# Altium integrated library NSC Temperature Sensor.IntLib: 347 symbols (part 6 of 9)
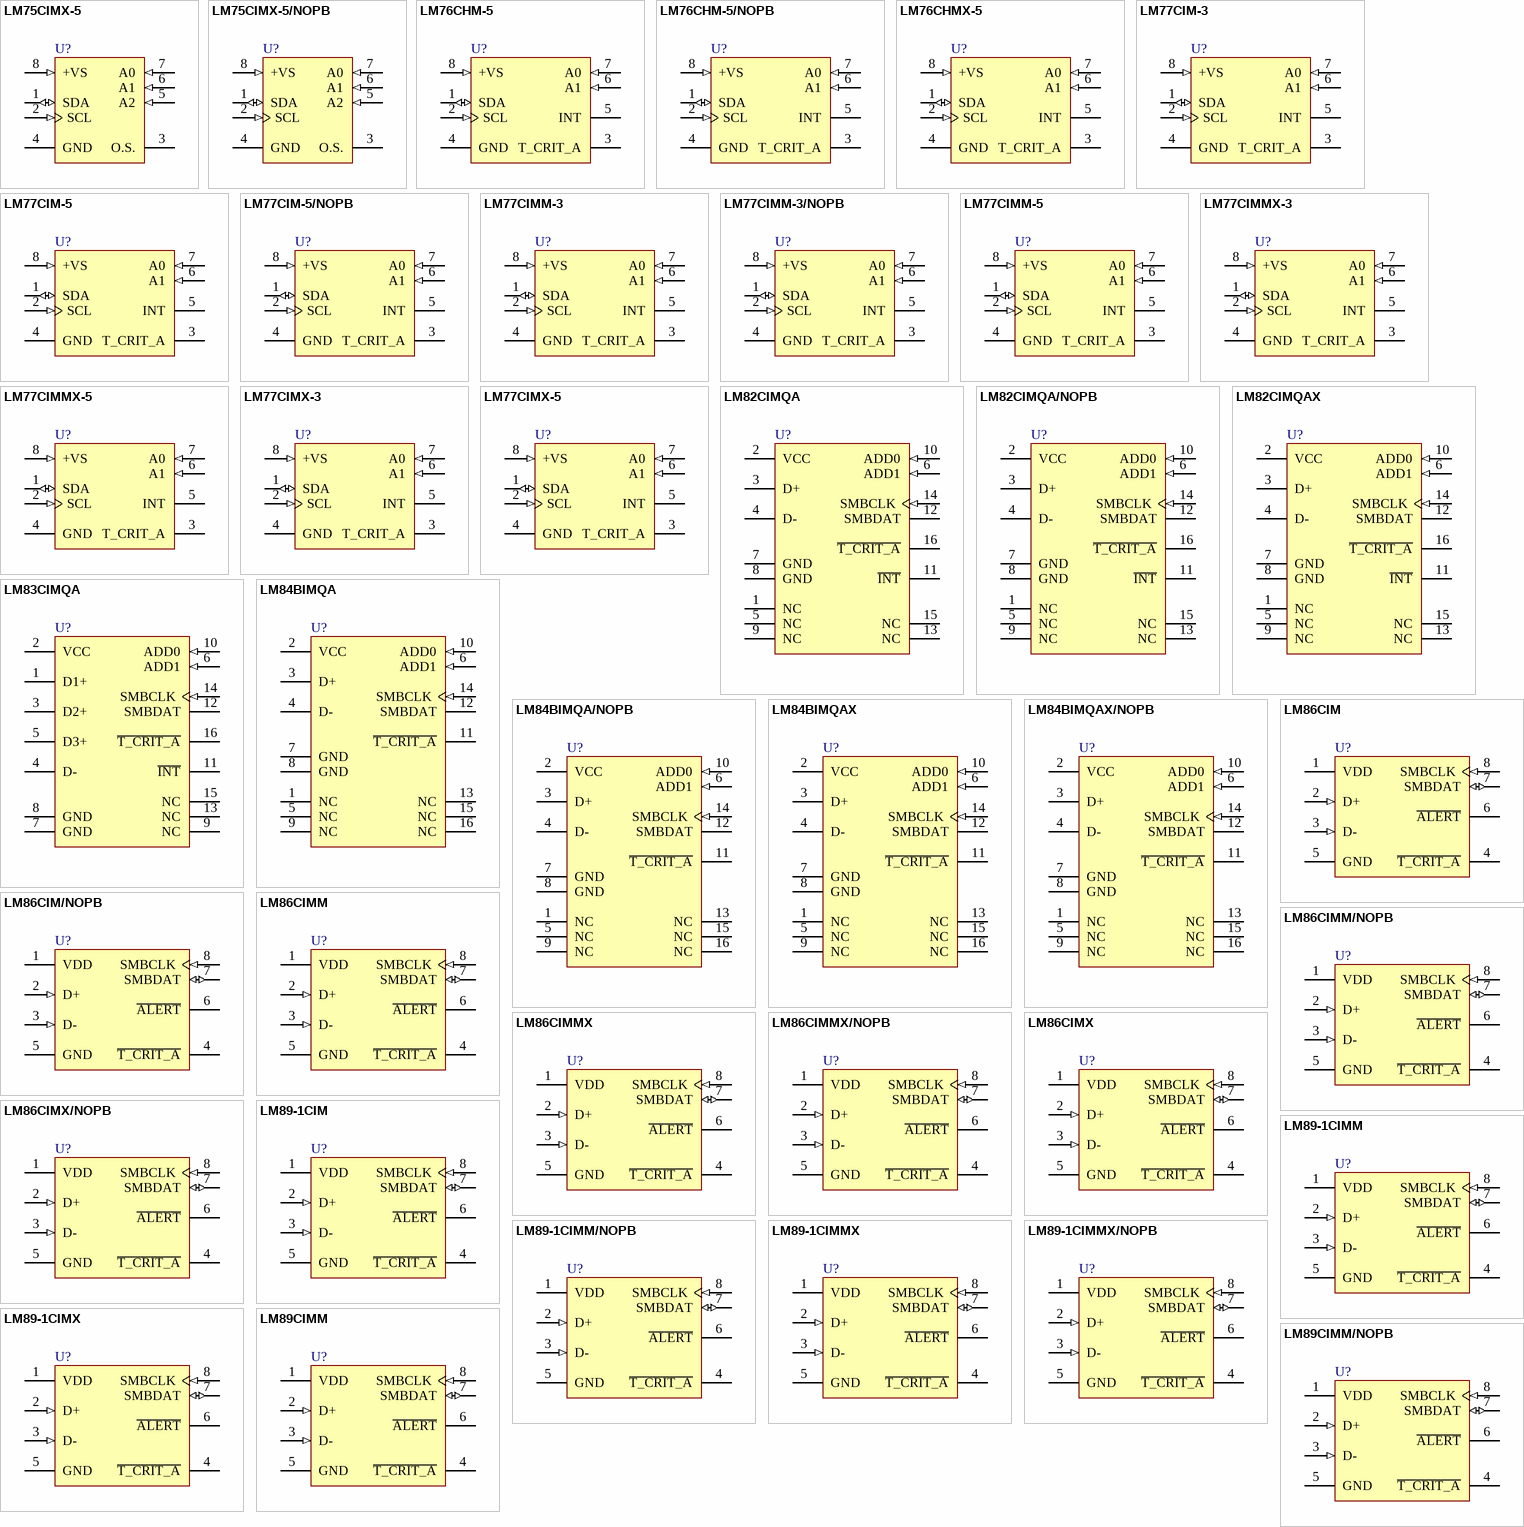
[diagram p14: symbols LM75CIMX-5 to LM89CIMM/NOPB]

## LM77CIM-3
designator U?
9-Bit + Sign Digital Temperature Sensor and Thermal Window Comparator with Two-Wire Interface, 8-pin Narrow SOIC; PartNumber: LM77CIM-3; Manufacturer: National Semiconductor; PackageTopMarking: NSZXTT*LM77*CIM-3; PowerWise: N; CompType: Temp Sensor IC; Published: 4-Dec-2008; DatasheetVersion: Jul-2001; PackageVersion: revM, May-2009; PackageReference: M08A; Publisher: Altium Limited; PackageDescription: SOIC Narrow, 4.9 x 3.9 x 1.45mm, 8 Lead, 1.27mm Pitch; Supplier 1: Farnell; Supplier Part Number 1: 9489622; RoHS: N; PinCount: 8; Code_JEDEC: MS-012-AA; Code_IPC: SOIC127P600-8; ComponentLink1Description: LM77 Datasheet; ComponentLink1URL: http://www.national.com/ds/LM/LM77.pdf; ComponentLink2Description: LM77 Web Page; ComponentLink2URL: http://www.national.com/pf/LM/LM77.html; ComponentLink3Description: M08A Package Page; ComponentLink3URL: http://www.national.com/packaging/folders/m08a.html
footprint M08A_N (SOIC, 8-Leads, Body 4.9x3.9mm, Pitch 1.27mm, IPC Medium Density)
footprint M08A_L (SOIC, 8-Leads, Body 4.9x3.9mm, Pitch 1.27mm, IPC High Density)
footprint M08A_M (SOIC, 8-Leads, Body 4.9x3.9mm, Pitch 1.27mm, IPC Low Density)
pins: 1 SDA (io), 2 SCL (in), 3 T_CRIT_A (oc), 4 GND (power), 5 INT (oc), 6 A1 (in), 7 A0 (in), 8 +VS (in)

## LM77CIM-5
designator U?
9-Bit + Sign Digital Temperature Sensor and Thermal Window Comparator with Two-Wire Interface, 8-pin Narrow SOIC; PartNumber: LM77CIM-5; Manufacturer: National Semiconductor; PackageTopMarking: NSZXTT*LM77*CIM-5; PowerWise: N; CompType: Temp Sensor IC; Published: 4-Dec-2008; DatasheetVersion: Jul-2001; PackageVersion: revM, May-2009; PackageReference: M08A; Publisher: Altium Limited; PackageDescription: SOIC Narrow, 4.9 x 3.9 x 1.45mm, 8 Lead, 1.27mm Pitch; Supplier 1: Farnell; Supplier Part Number 1: 9489630; RoHS: N; PinCount: 8; Code_JEDEC: MS-012-AA; Code_IPC: SOIC127P600-8; ComponentLink1Description: LM77 Datasheet; ComponentLink1URL: http://www.national.com/ds/LM/LM77.pdf; ComponentLink2Description: LM77 Web Page; ComponentLink2URL: http://www.national.com/pf/LM/LM77.html; ComponentLink3Description: M08A Package Page; ComponentLink3URL: http://www.national.com/packaging/folders/m08a.html
footprint M08A_N (SOIC, 8-Leads, Body 4.9x3.9mm, Pitch 1.27mm, IPC Medium Density)
footprint M08A_L (SOIC, 8-Leads, Body 4.9x3.9mm, Pitch 1.27mm, IPC High Density)
footprint M08A_M (SOIC, 8-Leads, Body 4.9x3.9mm, Pitch 1.27mm, IPC Low Density)
pins: 1 SDA (io), 2 SCL (in), 3 T_CRIT_A (oc), 4 GND (power), 5 INT (oc), 6 A1 (in), 7 A0 (in), 8 +VS (in)

## LM77CIM-5/NOPB
designator U?
9-Bit + Sign Digital Temperature Sensor and Thermal Window Comparator with Two-Wire Interface, 8-pin Narrow SOIC, Pb-Free; PartNumber: LM77CIM-5/NOPB; Manufacturer: National Semiconductor; PackageTopMarking: NSZXTT*LM77*CIM-5; PowerWise: N; CompType: Temp Sensor IC; Published: 1-Mar-2010; DatasheetVersion: Jul-2001; PackageVersion: revM, May-2009; PackageReference: M08A; Publisher: Altium Limited; PackageDescription: SOIC Narrow, 4.9 x 3.9 x 1.45mm, 8 Lead, 1.27mm Pitch; Supplier 1: Digi-Key; Supplier Part Number 1: LM77CIM-5-ND; RoHS: Y; PinCount: 8; Code_JEDEC: MS-012-AA; Code_IPC: SOIC127P600-8; ComponentLink1Description: LM77 Datasheet; ComponentLink1URL: http://www.national.com/ds/LM/LM77.pdf; ComponentLink2Description: LM77 Web Page; ComponentLink2URL: http://www.national.com/pf/LM/LM77.html; ComponentLink3Description: M08A Package Page; ComponentLink3URL: http://www.national.com/packaging/folders/m08a.html
footprint M08A_N (SOIC, 8-Leads, Body 4.9x3.9mm, Pitch 1.27mm, IPC Medium Density)
footprint M08A_L (SOIC, 8-Leads, Body 4.9x3.9mm, Pitch 1.27mm, IPC High Density)
footprint M08A_M (SOIC, 8-Leads, Body 4.9x3.9mm, Pitch 1.27mm, IPC Low Density)
pins: 1 SDA (io), 2 SCL (in), 3 T_CRIT_A (oc), 4 GND (power), 5 INT (oc), 6 A1 (in), 7 A0 (in), 8 +VS (in)

## LM77CIMM-3
designator U?
9-Bit + Sign Digital Temperature Sensor and Thermal Window Comparator with Two-Wire Interface, 8-pin Mini SOIC; PartNumber: LM77CIMM-3; Manufacturer: National Semiconductor; PackageTopMarking: ZXTT*T06C; PowerWise: N; CompType: Temp Sensor IC; Published: 4-Dec-2008; DatasheetVersion: Jul-2001; PackageVersion: revF, Apr-2008; PackageReference: MUA08A; Publisher: Altium Limited; PackageDescription: MINI SOIC, .118 x .118 x .034in, 8 Lead, .0256in Pitch; RoHS: N; PinCount: 8; Code_JEDEC: MO-187-AA; ComponentLink1Description: LM77 Datasheet; ComponentLink1URL: http://www.national.com/ds/LM/LM77.pdf; ComponentLink2Description: LM77 Web Page; ComponentLink2URL: http://www.national.com/pf/LM/LM77.html; ComponentLink3Description: MUA08A Package Page; ComponentLink3URL: http://www.national.com/packaging/folders/mua08a.html
footprint MUA08A_N (TSOP, 8-Leads, Body 3x3mm, Pitch 0.65mm, IPC Medium Density)
footprint MUA08A_L (TSOP, 8-Leads, Body 3x3mm, Pitch 0.65mm, IPC High Density)
footprint MUA08A_M (TSOP, 8-Leads, Body 3x3mm, Pitch 0.65mm, IPC Low Density)
pins: 1 SDA (io), 2 SCL (in), 3 T_CRIT_A (oc), 4 GND (power), 5 INT (oc), 6 A1 (in), 7 A0 (in), 8 +VS (in)

## LM77CIMM-3/NOPB
designator U?
9-Bit + Sign Digital Temperature Sensor and Thermal Window Comparator with Two-Wire Interface, 8-pin Mini SOIC, Pb-Free; PartNumber: LM77CIMM-3/NOPB; Manufacturer: National Semiconductor; PackageTopMarking: ZXTT*T06C; PowerWise: N; CompType: Temp Sensor IC; Published: 1-Mar-2010; DatasheetVersion: Jul-2001; PackageVersion: revF, Apr-2008; PackageReference: MUA08A; Publisher: Altium Limited; PackageDescription: MINI SOIC, .118 x .118 x .034in, 8 Lead, .0256in Pitch; Supplier 1: Digi-Key; Supplier Part Number 1: LM77CIMM-3TR-ND; Supplier 2: Digi-Key; Supplier Part Number 2: LM77CIMM-3CT-ND; Supplier 3: Digi-Key; Supplier Part Number 3: LM77CIMM-3DKR-ND; Supplier 4: Farnell; Supplier Part Number 4: 1564720; RoHS: Y; PinCount: 8; Code_JEDEC: MO-187-AA; ComponentLink1Description: LM77 Datasheet; ComponentLink1URL: http://www.national.com/ds/LM/LM77.pdf; ComponentLink2Description: LM77 Web Page; ComponentLink2URL: http://www.national.com/pf/LM/LM77.html; ComponentLink3Description: MUA08A Package Page; ComponentLink3URL: http://www.national.com/packaging/folders/mua08a.html
footprint MUA08A_N (TSOP, 8-Leads, Body 3x3mm, Pitch 0.65mm, IPC Medium Density)
footprint MUA08A_L (TSOP, 8-Leads, Body 3x3mm, Pitch 0.65mm, IPC High Density)
footprint MUA08A_M (TSOP, 8-Leads, Body 3x3mm, Pitch 0.65mm, IPC Low Density)
pins: 1 SDA (io), 2 SCL (in), 3 T_CRIT_A (oc), 4 GND (power), 5 INT (oc), 6 A1 (in), 7 A0 (in), 8 +VS (in)

## LM77CIMM-5
designator U?
9-Bit + Sign Digital Temperature Sensor and Thermal Window Comparator with Two-Wire Interface, 8-pin Mini SOIC; PartNumber: LM77CIMM-5; Manufacturer: National Semiconductor; PackageTopMarking: ZXTT*T07C; PowerWise: N; CompType: Temp Sensor IC; Published: 4-Dec-2008; DatasheetVersion: Jul-2001; PackageVersion: revF, Apr-2008; PackageReference: MUA08A; Publisher: Altium Limited; PackageDescription: MINI SOIC, .118 x .118 x .034in, 8 Lead, .0256in Pitch; RoHS: N; PinCount: 8; Code_JEDEC: MO-187-AA; ComponentLink1Description: LM77 Datasheet; ComponentLink1URL: http://www.national.com/ds/LM/LM77.pdf; ComponentLink2Description: LM77 Web Page; ComponentLink2URL: http://www.national.com/pf/LM/LM77.html; ComponentLink3Description: MUA08A Package Page; ComponentLink3URL: http://www.national.com/packaging/folders/mua08a.html
footprint MUA08A_N (TSOP, 8-Leads, Body 3x3mm, Pitch 0.65mm, IPC Medium Density)
footprint MUA08A_L (TSOP, 8-Leads, Body 3x3mm, Pitch 0.65mm, IPC High Density)
footprint MUA08A_M (TSOP, 8-Leads, Body 3x3mm, Pitch 0.65mm, IPC Low Density)
pins: 1 SDA (io), 2 SCL (in), 3 T_CRIT_A (oc), 4 GND (power), 5 INT (oc), 6 A1 (in), 7 A0 (in), 8 +VS (in)

## LM77CIMMX-3
designator U?
9-Bit + Sign Digital Temperature Sensor and Thermal Window Comparator with Two-Wire Interface, 8-pin Mini SOIC; PartNumber: LM77CIMMX-3; Manufacturer: National Semiconductor; PackageTopMarking: ZXTT*T06C; PowerWise: N; CompType: Temp Sensor IC; Published: 1-Mar-2010; DatasheetVersion: Jul-2001; PackageVersion: revF, Apr-2008; PackageReference: MUA08A; Publisher: Altium Limited; PackageDescription: MINI SOIC, .118 x .118 x .034in, 8 Lead, .0256in Pitch; RoHS: N; PinCount: 8; Code_JEDEC: MO-187-AA; ComponentLink1Description: LM77 Datasheet; ComponentLink1URL: http://www.national.com/ds/LM/LM77.pdf; ComponentLink2Description: LM77 Web Page; ComponentLink2URL: http://www.national.com/pf/LM/LM77.html; ComponentLink3Description: MUA08A Package Page; ComponentLink3URL: http://www.national.com/packaging/folders/mua08a.html
footprint MUA08A_N (TSOP, 8-Leads, Body 3x3mm, Pitch 0.65mm, IPC Medium Density)
footprint MUA08A_L (TSOP, 8-Leads, Body 3x3mm, Pitch 0.65mm, IPC High Density)
footprint MUA08A_M (TSOP, 8-Leads, Body 3x3mm, Pitch 0.65mm, IPC Low Density)
pins: 1 SDA (io), 2 SCL (in), 3 T_CRIT_A (oc), 4 GND (power), 5 INT (oc), 6 A1 (in), 7 A0 (in), 8 +VS (in)

## LM77CIMMX-5
designator U?
9-Bit + Sign Digital Temperature Sensor and Thermal Window Comparator with Two-Wire Interface, 8-pin Mini SOIC; PartNumber: LM77CIMMX-5; Manufacturer: National Semiconductor; PackageTopMarking: ZXTT*T07C; PowerWise: N; CompType: Temp Sensor IC; Published: 1-Mar-2010; DatasheetVersion: Jul-2001; PackageVersion: revF, Apr-2008; PackageReference: MUA08A; Publisher: Altium Limited; PackageDescription: MINI SOIC, .118 x .118 x .034in, 8 Lead, .0256in Pitch; RoHS: N; PinCount: 8; Code_JEDEC: MO-187-AA; ComponentLink1Description: LM77 Datasheet; ComponentLink1URL: http://www.national.com/ds/LM/LM77.pdf; ComponentLink2Description: LM77 Web Page; ComponentLink2URL: http://www.national.com/pf/LM/LM77.html; ComponentLink3Description: MUA08A Package Page; ComponentLink3URL: http://www.national.com/packaging/folders/mua08a.html
footprint MUA08A_N (TSOP, 8-Leads, Body 3x3mm, Pitch 0.65mm, IPC Medium Density)
footprint MUA08A_L (TSOP, 8-Leads, Body 3x3mm, Pitch 0.65mm, IPC High Density)
footprint MUA08A_M (TSOP, 8-Leads, Body 3x3mm, Pitch 0.65mm, IPC Low Density)
pins: 1 SDA (io), 2 SCL (in), 3 T_CRIT_A (oc), 4 GND (power), 5 INT (oc), 6 A1 (in), 7 A0 (in), 8 +VS (in)

## LM77CIMX-3
designator U?
9-Bit + Sign Digital Temperature Sensor and Thermal Window Comparator with Two-Wire Interface, 8-pin Narrow SOIC; PartNumber: LM77CIMX-3; Manufacturer: National Semiconductor; PackageTopMarking: NSZXTT*LM77*CIM-3; PowerWise: N; CompType: Temp Sensor IC; Published: 1-Mar-2010; DatasheetVersion: Jul-2001; PackageVersion: revM, May-2009; PackageReference: M08A; Publisher: Altium Limited; PackageDescription: SOIC Narrow, 4.9 x 3.9 x 1.45mm, 8 Lead, 1.27mm Pitch; RoHS: N; PinCount: 8; Code_JEDEC: MS-012-AA; Code_IPC: SOIC127P600-8; ComponentLink1Description: LM77 Datasheet; ComponentLink1URL: http://www.national.com/ds/LM/LM77.pdf; ComponentLink2Description: LM77 Web Page; ComponentLink2URL: http://www.national.com/pf/LM/LM77.html; ComponentLink3Description: M08A Package Page; ComponentLink3URL: http://www.national.com/packaging/folders/m08a.html
footprint M08A_N (SOIC, 8-Leads, Body 4.9x3.9mm, Pitch 1.27mm, IPC Medium Density)
footprint M08A_L (SOIC, 8-Leads, Body 4.9x3.9mm, Pitch 1.27mm, IPC High Density)
footprint M08A_M (SOIC, 8-Leads, Body 4.9x3.9mm, Pitch 1.27mm, IPC Low Density)
pins: 1 SDA (io), 2 SCL (in), 3 T_CRIT_A (oc), 4 GND (power), 5 INT (oc), 6 A1 (in), 7 A0 (in), 8 +VS (in)

## LM77CIMX-5
designator U?
9-Bit + Sign Digital Temperature Sensor and Thermal Window Comparator with Two-Wire Interface, 8-pin Narrow SOIC; PartNumber: LM77CIMX-5; Manufacturer: National Semiconductor; PackageTopMarking: NSZXTT*LM77*CIM-5; PowerWise: N; CompType: Temp Sensor IC; Published: 1-Mar-2010; DatasheetVersion: Jul-2001; PackageVersion: revM, May-2009; PackageReference: M08A; Publisher: Altium Limited; PackageDescription: SOIC Narrow, 4.9 x 3.9 x 1.45mm, 8 Lead, 1.27mm Pitch; RoHS: N; PinCount: 8; Code_JEDEC: MS-012-AA; Code_IPC: SOIC127P600-8; ComponentLink1Description: LM77 Datasheet; ComponentLink1URL: http://www.national.com/ds/LM/LM77.pdf; ComponentLink2Description: LM77 Web Page; ComponentLink2URL: http://www.national.com/pf/LM/LM77.html; ComponentLink3Description: M08A Package Page; ComponentLink3URL: http://www.national.com/packaging/folders/m08a.html
footprint M08A_N (SOIC, 8-Leads, Body 4.9x3.9mm, Pitch 1.27mm, IPC Medium Density)
footprint M08A_L (SOIC, 8-Leads, Body 4.9x3.9mm, Pitch 1.27mm, IPC High Density)
footprint M08A_M (SOIC, 8-Leads, Body 4.9x3.9mm, Pitch 1.27mm, IPC Low Density)
pins: 1 SDA (io), 2 SCL (in), 3 T_CRIT_A (oc), 4 GND (power), 5 INT (oc), 6 A1 (in), 7 A0 (in), 8 +VS (in)

## LM82CIMQA
designator U?
Remote Diode and Local Digital Temperature Sensor with Two-Wire Interface, 16-pin SSOP; PartNumber: LM82CIMQA; Manufacturer: National Semiconductor; PackageTopMarking: NSXYTT*82CI*MQA; PowerWise: N; CompType: Temp Sensor IC; Published: 4-Dec-2008; DatasheetVersion: Aug-2004; PackageVersion: revB, Jan-2005; PackageReference: MQA16; Publisher: Altium Limited; PackageDescription: SSOP, .150in Body Width, .025in Pitch, 16 Lead; RoHS: N; PinCount: 16; Code_JEDEC: MO-137-AB; ComponentLink1Description: LM82 Datasheet; ComponentLink1URL: http://www.national.com/ds/LM/LM82.pdf; ComponentLink2Description: LM82 Web Page; ComponentLink2URL: http://www.national.com/pf/LM/LM82.html; ComponentLink3Description: MQA16 Package Page; ComponentLink3URL: http://www.national.com/packaging/folders/mqa16.html
footprint MQA16_N (SOP, 16-Leads, Body 4.9x3.9mm, Pitch 0.635mm, IPC Medium Density)
footprint MQA16_L (SOP, 16-Leads, Body 4.9x3.9mm, Pitch 0.635mm, IPC High Density)
footprint MQA16_M (SOP, 16-Leads, Body 4.9x3.9mm, Pitch 0.635mm, IPC Low Density)
pins: 1 NC, 2 VCC (power), 3 D+, 4 D-, 5 NC, 6 ADD1 (in), 7 GND (power), 8 GND (power), 9 NC "Test Pin", 10 ADD0 (in), 11 ~{INT} (oc), 12 SMBDAT (oc), 13 NC "Test Pin", 14 SMBCLK (in), 15 NC "Test Pin", 16 ~{T_CRIT_A} (oc)

## LM82CIMQA/NOPB
designator U?
Remote Diode and Local Digital Temperature Sensor with Two-Wire Interface, 16-pin SSOP, Pb-Free; PartNumber: LM82CIMQA/NOPB; Manufacturer: National Semiconductor; PackageTopMarking: NSXYTT*82CI*MQA; PowerWise: N; CompType: Temp Sensor IC; Published: 1-Mar-2010; DatasheetVersion: Aug-2004; PackageVersion: revB, Jan-2005; PackageReference: MQA16; Publisher: Altium Limited; PackageDescription: SSOP, .150in Body Width, .025in Pitch, 16 Lead; Supplier 1: Digi-Key; Supplier Part Number 1: LM82CIMQA-ND; Supplier 2: Farnell; Supplier Part Number 2: 1685662; RoHS: Y; PinCount: 16; Code_JEDEC: MO-137-AB; ComponentLink1Description: LM82 Datasheet; ComponentLink1URL: http://www.national.com/ds/LM/LM82.pdf; ComponentLink2Description: LM82 Web Page; ComponentLink2URL: http://www.national.com/pf/LM/LM82.html; ComponentLink3Description: MQA16 Package Page; ComponentLink3URL: http://www.national.com/packaging/folders/mqa16.html
footprint MQA16_N (SOP, 16-Leads, Body 4.9x3.9mm, Pitch 0.635mm, IPC Medium Density)
footprint MQA16_L (SOP, 16-Leads, Body 4.9x3.9mm, Pitch 0.635mm, IPC High Density)
footprint MQA16_M (SOP, 16-Leads, Body 4.9x3.9mm, Pitch 0.635mm, IPC Low Density)
pins: 1 NC, 2 VCC (power), 3 D+, 4 D-, 5 NC, 6 ADD1 (in), 7 GND (power), 8 GND (power), 9 NC "Test Pin", 10 ADD0 (in), 11 ~{INT} (oc), 12 SMBDAT (oc), 13 NC "Test Pin", 14 SMBCLK (in), 15 NC "Test Pin", 16 ~{T_CRIT_A} (oc)

## LM82CIMQAX
designator U?
Remote Diode and Local Digital Temperature Sensor with Two-Wire Interface, 16-pin SSOP; PartNumber: LM82CIMQAX; Manufacturer: National Semiconductor; PackageTopMarking: NSXYTT*82CI*MQA; PowerWise: N; CompType: Temp Sensor IC; Published: 1-Mar-2010; DatasheetVersion: Aug-2004; PackageVersion: revB, Jan-2005; PackageReference: MQA16; Publisher: Altium Limited; PackageDescription: SSOP, .150in Body Width, .025in Pitch, 16 Lead; RoHS: N; PinCount: 16; Code_JEDEC: MO-137-AB; ComponentLink1Description: LM82 Datasheet; ComponentLink1URL: http://www.national.com/ds/LM/LM82.pdf; ComponentLink2Description: LM82 Web Page; ComponentLink2URL: http://www.national.com/pf/LM/LM82.html; ComponentLink3Description: MQA16 Package Page; ComponentLink3URL: http://www.national.com/packaging/folders/mqa16.html
footprint MQA16_N (SOP, 16-Leads, Body 4.9x3.9mm, Pitch 0.635mm, IPC Medium Density)
footprint MQA16_L (SOP, 16-Leads, Body 4.9x3.9mm, Pitch 0.635mm, IPC High Density)
footprint MQA16_M (SOP, 16-Leads, Body 4.9x3.9mm, Pitch 0.635mm, IPC Low Density)
pins: 1 NC, 2 VCC (power), 3 D+, 4 D-, 5 NC, 6 ADD1 (in), 7 GND (power), 8 GND (power), 9 NC "Test Pin", 10 ADD0 (in), 11 ~{INT} (oc), 12 SMBDAT (oc), 13 NC "Test Pin", 14 SMBCLK (in), 15 NC "Test Pin", 16 ~{T_CRIT_A} (oc)

## LM83CIMQA
designator U?
3 Diode Input ACPI Compatible Digital Temperature Sensor with Two-Wire Interface, 16-pin SSOP; PartNumber: LM83CIMQA; Manufacturer: National Semiconductor; PackageTopMarking: NSXYTT*83CI*MQA; PowerWise: N; CompType: Temp Sensor IC; Published: 4-Dec-2008; DatasheetVersion: Nov-1999; PackageVersion: revB, Jan-2005; PackageReference: MQA16; Publisher: Altium Limited; PackageDescription: SSOP, .150in Body Width, .025in Pitch, 16 Lead; RoHS: N; PinCount: 16; Code_JEDEC: MO-137-AB; ComponentLink1Description: LM83 Datasheet; ComponentLink1URL: http://www.national.com/ds/LM/LM83.pdf; ComponentLink2Description: LM83 Web Page; ComponentLink2URL: http://www.national.com/pf/LM/LM83.html; ComponentLink3Description: MQA16 Package Page; ComponentLink3URL: http://www.national.com/packaging/folders/mqa16.html
footprint MQA16_N (SOP, 16-Leads, Body 4.9x3.9mm, Pitch 0.635mm, IPC Medium Density)
footprint MQA16_L (SOP, 16-Leads, Body 4.9x3.9mm, Pitch 0.635mm, IPC High Density)
footprint MQA16_M (SOP, 16-Leads, Body 4.9x3.9mm, Pitch 0.635mm, IPC Low Density)
pins: 1 D1+, 2 VCC (power), 3 D2+, 4 D-, 5 D3+, 6 ADD1 (in), 7 GND (power), 8 GND (power), 9 NC "Test Pin", 10 ADD0 (in), 11 ~{INT} (oc), 12 SMBDAT (oc), 13 NC "Test Pin", 14 SMBCLK (in), 15 NC "Test Pin", 16 ~{T_CRIT_A} (oc)

## LM84BIMQA
designator U?
Diode Input Digital Temperature Sensor with Two-Wire Interface, 16-pin SSOP; PartNumber: LM84BIMQA; Manufacturer: National Semiconductor; PackageTopMarking: NSXYTT*84BI*MQA; PowerWise: N; CompType: Temp Sensor IC; Published: 4-Dec-2008; DatasheetVersion: Jul-2000; PackageVersion: revB, Jan-2005; PackageReference: MQA16; Publisher: Altium Limited; PackageDescription: SSOP, .150in Body Width, .025in Pitch, 16 Lead; Supplier 1: Digi-Key; Supplier Part Number 1: LM84BIMQA-ND; RoHS: N; PinCount: 16; Code_JEDEC: MO-137-AB; ComponentLink1Description: LM84 Datasheet; ComponentLink1URL: http://www.national.com/ds/LM/LM84.pdf; ComponentLink2Description: LM84 Web Page; ComponentLink2URL: http://www.national.com/pf/LM/LM84.html; ComponentLink3Description: MQA16 Package Page; ComponentLink3URL: http://www.national.com/packaging/folders/mqa16.html
footprint MQA16_N (SOP, 16-Leads, Body 4.9x3.9mm, Pitch 0.635mm, IPC Medium Density)
footprint MQA16_L (SOP, 16-Leads, Body 4.9x3.9mm, Pitch 0.635mm, IPC High Density)
footprint MQA16_M (SOP, 16-Leads, Body 4.9x3.9mm, Pitch 0.635mm, IPC Low Density)
pins: 1 NC, 2 VCC (power), 3 D+, 4 D-, 5 NC, 6 ADD1 (in), 7 GND (power), 8 GND (power), 9 NC "Test Pin", 10 ADD0 (in), 11 ~{T_CRIT_A} (oc), 12 SMBDAT (oc), 13 NC "Test Pin", 14 SMBCLK (in), 15 NC, 16 NC "Test Pin"

## LM84BIMQA/NOPB
designator U?
Diode Input Digital Temperature Sensor with Two-Wire Interface, 16-pin SSOP, Pb-Free; PartNumber: LM84BIMQA/NOPB; Manufacturer: National Semiconductor; PackageTopMarking: NSXYTT*84BI*MQA; PowerWise: N; CompType: Temp Sensor IC; Published: 1-Mar-2010; DatasheetVersion: Jul-2000; PackageVersion: revB, Jan-2005; PackageReference: MQA16; Publisher: Altium Limited; PackageDescription: SSOP, .150in Body Width, .025in Pitch, 16 Lead; Supplier 1: Digi-Key; Supplier Part Number 1: LM84BIMQA/NOPB-ND; RoHS: Y; PinCount: 16; Code_JEDEC: MO-137-AB; ComponentLink1Description: LM84 Datasheet; ComponentLink1URL: http://www.national.com/ds/LM/LM84.pdf; ComponentLink2Description: LM84 Web Page; ComponentLink2URL: http://www.national.com/pf/LM/LM84.html; ComponentLink3Description: MQA16 Package Page; ComponentLink3URL: http://www.national.com/packaging/folders/mqa16.html
footprint MQA16_N (SOP, 16-Leads, Body 4.9x3.9mm, Pitch 0.635mm, IPC Medium Density)
footprint MQA16_L (SOP, 16-Leads, Body 4.9x3.9mm, Pitch 0.635mm, IPC High Density)
footprint MQA16_M (SOP, 16-Leads, Body 4.9x3.9mm, Pitch 0.635mm, IPC Low Density)
pins: 1 NC, 2 VCC (power), 3 D+, 4 D-, 5 NC, 6 ADD1 (in), 7 GND (power), 8 GND (power), 9 NC "Test Pin", 10 ADD0 (in), 11 ~{T_CRIT_A} (oc), 12 SMBDAT (oc), 13 NC "Test Pin", 14 SMBCLK (in), 15 NC, 16 NC "Test Pin"

## LM84BIMQAX
designator U?
Diode Input Digital Temperature Sensor with Two-Wire Interface, 16-pin SSOP; PartNumber: LM84BIMQAX; Manufacturer: National Semiconductor; PackageTopMarking: NSXYTT*84BI*MQA; PowerWise: N; CompType: Temp Sensor IC; Published: 1-Mar-2010; DatasheetVersion: Jul-2000; PackageVersion: revB, Jan-2005; PackageReference: MQA16; Publisher: Altium Limited; PackageDescription: SSOP, .150in Body Width, .025in Pitch, 16 Lead; Supplier 1: Digi-Key; Supplier Part Number 1: LM84BIMQAXTR-ND; Supplier 2: Digi-Key; Supplier Part Number 2: LM84BIMQAXCT-ND; RoHS: N; PinCount: 16; Code_JEDEC: MO-137-AB; ComponentLink1Description: LM84 Datasheet; ComponentLink1URL: http://www.national.com/ds/LM/LM84.pdf; ComponentLink2Description: LM84 Web Page; ComponentLink2URL: http://www.national.com/pf/LM/LM84.html; ComponentLink3Description: MQA16 Package Page; ComponentLink3URL: http://www.national.com/packaging/folders/mqa16.html
footprint MQA16_N (SOP, 16-Leads, Body 4.9x3.9mm, Pitch 0.635mm, IPC Medium Density)
footprint MQA16_L (SOP, 16-Leads, Body 4.9x3.9mm, Pitch 0.635mm, IPC High Density)
footprint MQA16_M (SOP, 16-Leads, Body 4.9x3.9mm, Pitch 0.635mm, IPC Low Density)
pins: 1 NC, 2 VCC (power), 3 D+, 4 D-, 5 NC, 6 ADD1 (in), 7 GND (power), 8 GND (power), 9 NC "Test Pin", 10 ADD0 (in), 11 ~{T_CRIT_A} (oc), 12 SMBDAT (oc), 13 NC "Test Pin", 14 SMBCLK (in), 15 NC, 16 NC "Test Pin"

## LM84BIMQAX/NOPB
designator U?
Diode Input Digital Temperature Sensor with Two-Wire Interface, 16-pin SSOP, Pb-Free; PartNumber: LM84BIMQAX/NOPB; Manufacturer: National Semiconductor; PackageTopMarking: NSXYTT*84BI*MQA; PowerWise: N; CompType: Temp Sensor IC; Published: 1-Mar-2010; DatasheetVersion: Jul-2000; PackageVersion: revB, Jan-2005; PackageReference: MQA16; Publisher: Altium Limited; PackageDescription: SSOP, .150in Body Width, .025in Pitch, 16 Lead; Supplier 1: Digi-Key; Supplier Part Number 1: LM84BIMQAX/NOPBTR-ND; Supplier 2: Digi-Key; Supplier Part Number 2: LM84BIMQAX/NOPBCT-ND; RoHS: Y; PinCount: 16; Code_JEDEC: MO-137-AB; ComponentLink1Description: LM84 Datasheet; ComponentLink1URL: http://www.national.com/ds/LM/LM84.pdf; ComponentLink2Description: LM84 Web Page; ComponentLink2URL: http://www.national.com/pf/LM/LM84.html; ComponentLink3Description: MQA16 Package Page; ComponentLink3URL: http://www.national.com/packaging/folders/mqa16.html
footprint MQA16_N (SOP, 16-Leads, Body 4.9x3.9mm, Pitch 0.635mm, IPC Medium Density)
footprint MQA16_L (SOP, 16-Leads, Body 4.9x3.9mm, Pitch 0.635mm, IPC High Density)
footprint MQA16_M (SOP, 16-Leads, Body 4.9x3.9mm, Pitch 0.635mm, IPC Low Density)
pins: 1 NC, 2 VCC (power), 3 D+, 4 D-, 5 NC, 6 ADD1 (in), 7 GND (power), 8 GND (power), 9 NC "Test Pin", 10 ADD0 (in), 11 ~{T_CRIT_A} (oc), 12 SMBDAT (oc), 13 NC "Test Pin", 14 SMBCLK (in), 15 NC, 16 NC "Test Pin"

## LM86CIM
designator U?
±0.75ºC Accurate, Remote Diode and Local Digital Temperature Sensor with Two-Wire Interface, 8-pin Narrow SOIC; PartNumber: LM86CIM; Manufacturer: National Semiconductor; PackageTopMarking: NSZXTT*LM86*CIM; PowerWise: N; CompType: Temp Sensor IC; Published: 4-Dec-2008; DatasheetVersion: Apr-2003; PackageVersion: revM, May-2009; PackageReference: M08A; Publisher: Altium Limited; PackageDescription: SOIC Narrow, 4.9 x 3.9 x 1.45mm, 8 Lead, 1.27mm Pitch; Supplier 1: Digi-Key; Supplier Part Number 1: LM86CIM-ND; RoHS: N; PinCount: 8; Code_JEDEC: MS-012-AA; Code_IPC: SOIC127P600-8; ComponentLink1Description: LM86 Datasheet; ComponentLink1URL: http://www.national.com/ds/LM/LM86.pdf; ComponentLink2Description: LM86 Web Page; ComponentLink2URL: http://www.national.com/pf/LM/LM86.html; ComponentLink3Description: M08A Package Page; ComponentLink3URL: http://www.national.com/packaging/folders/m08a.html
footprint M08A_N (SOIC, 8-Leads, Body 4.9x3.9mm, Pitch 1.27mm, IPC Medium Density)
footprint M08A_L (SOIC, 8-Leads, Body 4.9x3.9mm, Pitch 1.27mm, IPC High Density)
footprint M08A_M (SOIC, 8-Leads, Body 4.9x3.9mm, Pitch 1.27mm, IPC Low Density)
pins: 1 VDD (power), 2 D+ (in), 3 D- (in), 4 ~{T_CRIT_A} (oc), 5 GND (power), 6 ~{ALERT} (oc), 7 SMBDAT (io), 8 SMBCLK (in)

## LM86CIM/NOPB
designator U?
±0.75°C Accurate, Remote Diode and Local Digital Temperature Sensor with Two-Wire Interface, 8-pin Narrow SOIC, Pb-Free; PartNumber: LM86CIM/NOPB; Manufacturer: National Semiconductor; PackageTopMarking: NSZXTT*LM86*CIM; PowerWise: N; CompType: Temp Sensor IC; Published: 1-Mar-2010; DatasheetVersion: Apr-2003; PackageVersion: revM, May-2009; PackageReference: M08A; Publisher: Altium Limited; PackageDescription: SOIC Narrow, 4.9 x 3.9 x 1.45mm, 8 Lead, 1.27mm Pitch; Supplier 1: Digi-Key; Supplier Part Number 1: LM86CIM/NOPB-ND; RoHS: Y; PinCount: 8; Code_JEDEC: MS-012-AA; Code_IPC: SOIC127P600-8; ComponentLink1Description: LM86 Datasheet; ComponentLink1URL: http://www.national.com/ds/LM/LM86.pdf; ComponentLink2Description: LM86 Web Page; ComponentLink2URL: http://www.national.com/pf/LM/LM86.html; ComponentLink3Description: M08A Package Page; ComponentLink3URL: http://www.national.com/packaging/folders/m08a.html
footprint M08A_N (SOIC, 8-Leads, Body 4.9x3.9mm, Pitch 1.27mm, IPC Medium Density)
footprint M08A_L (SOIC, 8-Leads, Body 4.9x3.9mm, Pitch 1.27mm, IPC High Density)
footprint M08A_M (SOIC, 8-Leads, Body 4.9x3.9mm, Pitch 1.27mm, IPC Low Density)
pins: 1 VDD (power), 2 D+ (in), 3 D- (in), 4 ~{T_CRIT_A} (oc), 5 GND (power), 6 ~{ALERT} (oc), 7 SMBDAT (io), 8 SMBCLK (in)

## LM86CIMM
designator U?
±0.75ºC Accurate, Remote Diode and Local Digital Temperature Sensor with Two-Wire Interface, 8-pin Mini SOIC; PartNumber: LM86CIMM; Manufacturer: National Semiconductor; PackageTopMarking: ZXTT*T10C; PowerWise: N; CompType: Temp Sensor IC; Published: 4-Dec-2008; DatasheetVersion: Apr-2003; PackageVersion: revF, Apr-2008; PackageReference: MUA08A; Publisher: Altium Limited; PackageDescription: MINI SOIC, .118 x .118 x .034in, 8 Lead, .0256in Pitch; Supplier 1: Digi-Key; Supplier Part Number 1: LM86CIMMTR-ND; Supplier 2: Digi-Key; Supplier Part Number 2: LM86CIMMCT-ND; RoHS: N; PinCount: 8; Code_JEDEC: MO-187-AA; ComponentLink1Description: LM86 Datasheet; ComponentLink1URL: http://www.national.com/ds/LM/LM86.pdf; ComponentLink2Description: LM86 Web Page; ComponentLink2URL: http://www.national.com/pf/LM/LM86.html; ComponentLink3Description: MUA08A Package Page; ComponentLink3URL: http://www.national.com/packaging/folders/mua08a.html
footprint MUA08A_N (TSOP, 8-Leads, Body 3x3mm, Pitch 0.65mm, IPC Medium Density)
footprint MUA08A_L (TSOP, 8-Leads, Body 3x3mm, Pitch 0.65mm, IPC High Density)
footprint MUA08A_M (TSOP, 8-Leads, Body 3x3mm, Pitch 0.65mm, IPC Low Density)
pins: 1 VDD (power), 2 D+ (in), 3 D- (in), 4 ~{T_CRIT_A} (oc), 5 GND (power), 6 ~{ALERT} (oc), 7 SMBDAT (io), 8 SMBCLK (in)

## LM86CIMM/NOPB
designator U?
±0.75°C Accurate, Remote Diode and Local Digital Temperature Sensor with Two-Wire Interface, 8-pin Mini SOIC, Pb-Free; PartNumber: LM86CIMM/NOPB; Manufacturer: National Semiconductor; PackageTopMarking: ZXTT*T10C; PowerWise: N; CompType: Temp Sensor IC; Published: 1-Mar-2010; DatasheetVersion: Apr-2003; PackageVersion: revF, Apr-2008; PackageReference: MUA08A; Publisher: Altium Limited; PackageDescription: MINI SOIC, .118 x .118 x .034in, 8 Lead, .0256in Pitch; Supplier 1: Digi-Key; Supplier Part Number 1: LM86CIMM/NOPBTR-ND; Supplier 2: Digi-Key; Supplier Part Number 2: LM86CIMM/NOPBCT-ND; Supplier 3: Digi-Key; Supplier Part Number 3: LM86CIMM/NOPBDKR-ND; Supplier 4: Farnell; Supplier Part Number 4: 1652474; RoHS: Y; PinCount: 8; Code_JEDEC: MO-187-AA; ComponentLink1Description: LM86 Datasheet; ComponentLink1URL: http://www.national.com/ds/LM/LM86.pdf; ComponentLink2Description: LM86 Web Page; ComponentLink2URL: http://www.national.com/pf/LM/LM86.html; ComponentLink3Description: MUA08A Package Page; ComponentLink3URL: http://www.national.com/packaging/folders/mua08a.html
footprint MUA08A_N (TSOP, 8-Leads, Body 3x3mm, Pitch 0.65mm, IPC Medium Density)
footprint MUA08A_L (TSOP, 8-Leads, Body 3x3mm, Pitch 0.65mm, IPC High Density)
footprint MUA08A_M (TSOP, 8-Leads, Body 3x3mm, Pitch 0.65mm, IPC Low Density)
pins: 1 VDD (power), 2 D+ (in), 3 D- (in), 4 ~{T_CRIT_A} (oc), 5 GND (power), 6 ~{ALERT} (oc), 7 SMBDAT (io), 8 SMBCLK (in)

## LM86CIMMX
designator U?
±0.75°C Accurate, Remote Diode and Local Digital Temperature Sensor with Two-Wire Interface, 8-pin Mini SOIC; PartNumber: LM86CIMMX; Manufacturer: National Semiconductor; PackageTopMarking: ZXTT*T10C; PowerWise: N; CompType: Temp Sensor IC; Published: 1-Mar-2010; DatasheetVersion: Apr-2003; PackageVersion: revF, Apr-2008; PackageReference: MUA08A; Publisher: Altium Limited; PackageDescription: MINI SOIC, .118 x .118 x .034in, 8 Lead, .0256in Pitch; RoHS: N; PinCount: 8; Code_JEDEC: MO-187-AA; ComponentLink1Description: LM86 Datasheet; ComponentLink1URL: http://www.national.com/ds/LM/LM86.pdf; ComponentLink2Description: LM86 Web Page; ComponentLink2URL: http://www.national.com/pf/LM/LM86.html; ComponentLink3Description: MUA08A Package Page; ComponentLink3URL: http://www.national.com/packaging/folders/mua08a.html
footprint MUA08A_N (TSOP, 8-Leads, Body 3x3mm, Pitch 0.65mm, IPC Medium Density)
footprint MUA08A_L (TSOP, 8-Leads, Body 3x3mm, Pitch 0.65mm, IPC High Density)
footprint MUA08A_M (TSOP, 8-Leads, Body 3x3mm, Pitch 0.65mm, IPC Low Density)
pins: 1 VDD (power), 2 D+ (in), 3 D- (in), 4 ~{T_CRIT_A} (oc), 5 GND (power), 6 ~{ALERT} (oc), 7 SMBDAT (io), 8 SMBCLK (in)

## LM86CIMMX/NOPB
designator U?
±0.75°C Accurate, Remote Diode and Local Digital Temperature Sensor with Two-Wire Interface, 8-pin Mini SOIC, Pb-Free; PartNumber: LM86CIMMX/NOPB; Manufacturer: National Semiconductor; PackageTopMarking: ZXTT*T10C; PowerWise: N; CompType: Temp Sensor IC; Published: 1-Mar-2010; DatasheetVersion: Apr-2003; PackageVersion: revF, Apr-2008; PackageReference: MUA08A; Publisher: Altium Limited; PackageDescription: MINI SOIC, .118 x .118 x .034in, 8 Lead, .0256in Pitch; Supplier 1: Digi-Key; Supplier Part Number 1: LM86CIMMX-ND; RoHS: Y; PinCount: 8; Code_JEDEC: MO-187-AA; ComponentLink1Description: LM86 Datasheet; ComponentLink1URL: http://www.national.com/ds/LM/LM86.pdf; ComponentLink2Description: LM86 Web Page; ComponentLink2URL: http://www.national.com/pf/LM/LM86.html; ComponentLink3Description: MUA08A Package Page; ComponentLink3URL: http://www.national.com/packaging/folders/mua08a.html
footprint MUA08A_N (TSOP, 8-Leads, Body 3x3mm, Pitch 0.65mm, IPC Medium Density)
footprint MUA08A_L (TSOP, 8-Leads, Body 3x3mm, Pitch 0.65mm, IPC High Density)
footprint MUA08A_M (TSOP, 8-Leads, Body 3x3mm, Pitch 0.65mm, IPC Low Density)
pins: 1 VDD (power), 2 D+ (in), 3 D- (in), 4 ~{T_CRIT_A} (oc), 5 GND (power), 6 ~{ALERT} (oc), 7 SMBDAT (io), 8 SMBCLK (in)

## LM86CIMX
designator U?
±0.75°C Accurate, Remote Diode and Local Digital Temperature Sensor with Two-Wire Interface, 8-pin Narrow SOIC; PartNumber: LM86CIMX; Manufacturer: National Semiconductor; PackageTopMarking: NSZXTT*LM86*CIM; PowerWise: N; CompType: Temp Sensor IC; Published: 1-Mar-2010; DatasheetVersion: Apr-2003; PackageVersion: revM, May-2009; PackageReference: M08A; Publisher: Altium Limited; PackageDescription: SOIC Narrow, 4.9 x 3.9 x 1.45mm, 8 Lead, 1.27mm Pitch; Supplier 1: Digi-Key; Supplier Part Number 1: LM86CIMXTR-ND; Supplier 2: Digi-Key; Supplier Part Number 2: LM86CIMXCT-ND; RoHS: N; PinCount: 8; Code_JEDEC: MS-012-AA; Code_IPC: SOIC127P600-8; ComponentLink1Description: LM86 Datasheet; ComponentLink1URL: http://www.national.com/ds/LM/LM86.pdf; ComponentLink2Description: LM86 Web Page; ComponentLink2URL: http://www.national.com/pf/LM/LM86.html; ComponentLink3Description: M08A Package Page; ComponentLink3URL: http://www.national.com/packaging/folders/m08a.html
footprint M08A_N (SOIC, 8-Leads, Body 4.9x3.9mm, Pitch 1.27mm, IPC Medium Density)
footprint M08A_L (SOIC, 8-Leads, Body 4.9x3.9mm, Pitch 1.27mm, IPC High Density)
footprint M08A_M (SOIC, 8-Leads, Body 4.9x3.9mm, Pitch 1.27mm, IPC Low Density)
pins: 1 VDD (power), 2 D+ (in), 3 D- (in), 4 ~{T_CRIT_A} (oc), 5 GND (power), 6 ~{ALERT} (oc), 7 SMBDAT (io), 8 SMBCLK (in)

## LM86CIMX/NOPB
designator U?
±0.75°C Accurate, Remote Diode and Local Digital Temperature Sensor with Two-Wire Interface, 8-pin Narrow SOIC, Pb-Free; PartNumber: LM86CIMX/NOPB; Manufacturer: National Semiconductor; PackageTopMarking: NSZXTT*LM86*CIM; PowerWise: N; CompType: Temp Sensor IC; Published: 1-Mar-2010; DatasheetVersion: Apr-2003; PackageVersion: revM, May-2009; PackageReference: M08A; Publisher: Altium Limited; PackageDescription: SOIC Narrow, 4.9 x 3.9 x 1.45mm, 8 Lead, 1.27mm Pitch; Supplier 1: Digi-Key; Supplier Part Number 1: LM86CIMX/NOPBTR-ND; Supplier 2: Digi-Key; Supplier Part Number 2: LM86CIMX/NOPBCT-ND; RoHS: Y; PinCount: 8; Code_JEDEC: MS-012-AA; Code_IPC: SOIC127P600-8; ComponentLink1Description: LM86 Datasheet; ComponentLink1URL: http://www.national.com/ds/LM/LM86.pdf; ComponentLink2Description: LM86 Web Page; ComponentLink2URL: http://www.national.com/pf/LM/LM86.html; ComponentLink3Description: M08A Package Page; ComponentLink3URL: http://www.national.com/packaging/folders/m08a.html
footprint M08A_N (SOIC, 8-Leads, Body 4.9x3.9mm, Pitch 1.27mm, IPC Medium Density)
footprint M08A_L (SOIC, 8-Leads, Body 4.9x3.9mm, Pitch 1.27mm, IPC High Density)
footprint M08A_M (SOIC, 8-Leads, Body 4.9x3.9mm, Pitch 1.27mm, IPC Low Density)
pins: 1 VDD (power), 2 D+ (in), 3 D- (in), 4 ~{T_CRIT_A} (oc), 5 GND (power), 6 ~{ALERT} (oc), 7 SMBDAT (io), 8 SMBCLK (in)

## LM89-1CIM
designator U?
±0.75ºC Accurate, Remote Diode and Local Digital Temperature Sensor with Two-Wire Interface, 8-pin Narrow SOIC; PartNumber: LM89-1CIM; Manufacturer: National Semiconductor; PackageTopMarking: NSZXTT*LM89*-1CIM; PowerWise: N; CompType: Temp Sensor IC; Published: 4-Dec-2008; DatasheetVersion: Dec-2004; PackageVersion: revM, May-2009; PackageReference: M08A; Publisher: Altium Limited; PackageDescription: SOIC Narrow, 4.9 x 3.9 x 1.45mm, 8 Lead, 1.27mm Pitch; RoHS: N; PinCount: 8; Code_JEDEC: MS-012-AA; Code_IPC: SOIC127P600-8; ComponentLink1Description: LM89 Datasheet; ComponentLink1URL: http://www.national.com/ds/LM/LM89.pdf; ComponentLink2Description: LM89 Web Page; ComponentLink2URL: http://www.national.com/pf/LM/LM89.html; ComponentLink3Description: M08A Package Page; ComponentLink3URL: http://www.national.com/packaging/folders/m08a.html
footprint M08A_N (SOIC, 8-Leads, Body 4.9x3.9mm, Pitch 1.27mm, IPC Medium Density)
footprint M08A_L (SOIC, 8-Leads, Body 4.9x3.9mm, Pitch 1.27mm, IPC High Density)
footprint M08A_M (SOIC, 8-Leads, Body 4.9x3.9mm, Pitch 1.27mm, IPC Low Density)
pins: 1 VDD (power), 2 D+ (in), 3 D- (in), 4 ~{T_CRIT_A} (oc), 5 GND (power), 6 ~{ALERT} (oc), 7 SMBDAT (io), 8 SMBCLK (in)

## LM89-1CIMM
designator U?
±0.75ºC Accurate, Remote Diode and Local Digital Temperature Sensor with Two-Wire Interface, 8-pin Mini SOIC; PartNumber: LM89-1CIMM; Manufacturer: National Semiconductor; PackageTopMarking: ZXTT*T19C; PowerWise: N; CompType: Temp Sensor IC; Published: 4-Dec-2008; DatasheetVersion: Dec-2004; PackageVersion: revF, Apr-2008; PackageReference: MUA08A; Publisher: Altium Limited; PackageDescription: MINI SOIC, .118 x .118 x .034in, 8 Lead, .0256in Pitch; RoHS: N; PinCount: 8; Code_JEDEC: MO-187-AA; ComponentLink1Description: LM89 Datasheet; ComponentLink1URL: http://www.national.com/ds/LM/LM89.pdf; ComponentLink2Description: LM89 Web Page; ComponentLink2URL: http://www.national.com/pf/LM/LM89.html; ComponentLink3Description: MUA08A Package Page; ComponentLink3URL: http://www.national.com/packaging/folders/mua08a.html
footprint MUA08A_N (TSOP, 8-Leads, Body 3x3mm, Pitch 0.65mm, IPC Medium Density)
footprint MUA08A_L (TSOP, 8-Leads, Body 3x3mm, Pitch 0.65mm, IPC High Density)
footprint MUA08A_M (TSOP, 8-Leads, Body 3x3mm, Pitch 0.65mm, IPC Low Density)
pins: 1 VDD (power), 2 D+ (in), 3 D- (in), 4 ~{T_CRIT_A} (oc), 5 GND (power), 6 ~{ALERT} (oc), 7 SMBDAT (io), 8 SMBCLK (in)

## LM89-1CIMM/NOPB
designator U?
±0.75°C Accurate, Remote Diode and Local Digital Temperature Sensor with Two-Wire Interface-Wire Interface, 8-pin Mini SOIC, Pb-Free; PartNumber: LM89-1CIMM/NOPB; Manufacturer: National Semiconductor; PackageTopMarking: ZXTT*T19C; PowerWise: N; CompType: Temp Sensor IC; Published: 1-Mar-2010; DatasheetVersion: Dec-2004; PackageVersion: revF, Apr-2008; PackageReference: MUA08A; Publisher: Altium Limited; PackageDescription: MINI SOIC, .118 x .118 x .034in, 8 Lead, .0256in Pitch; Supplier 1: Digi-Key; Supplier Part Number 1: LM89-1CIMM-ND; RoHS: Y; PinCount: 8; Code_JEDEC: MO-187-AA; ComponentLink1Description: LM89 Datasheet; ComponentLink1URL: http://www.national.com/ds/LM/LM89.pdf; ComponentLink2Description: LM89 Web Page; ComponentLink2URL: http://www.national.com/pf/LM/LM89.html; ComponentLink3Description: MUA08A Package Page; ComponentLink3URL: http://www.national.com/packaging/folders/mua08a.html
footprint MUA08A_N (TSOP, 8-Leads, Body 3x3mm, Pitch 0.65mm, IPC Medium Density)
footprint MUA08A_L (TSOP, 8-Leads, Body 3x3mm, Pitch 0.65mm, IPC High Density)
footprint MUA08A_M (TSOP, 8-Leads, Body 3x3mm, Pitch 0.65mm, IPC Low Density)
pins: 1 VDD (power), 2 D+ (in), 3 D- (in), 4 ~{T_CRIT_A} (oc), 5 GND (power), 6 ~{ALERT} (oc), 7 SMBDAT (io), 8 SMBCLK (in)

## LM89-1CIMMX
designator U?
±0.75°C Accurate, Remote Diode and Local Digital Temperature Sensor with Two-Wire Interface-Wire Interface, 8-pin Mini SOIC; PartNumber: LM89-1CIMMX; Manufacturer: National Semiconductor; PackageTopMarking: ZXTT*T19C; PowerWise: N; CompType: Temp Sensor IC; Published: 1-Mar-2010; DatasheetVersion: Dec-2004; PackageVersion: revF, Apr-2008; PackageReference: MUA08A; Publisher: Altium Limited; PackageDescription: MINI SOIC, .118 x .118 x .034in, 8 Lead, .0256in Pitch; RoHS: N; PinCount: 8; Code_JEDEC: MO-187-AA; ComponentLink1Description: LM89 Datasheet; ComponentLink1URL: http://www.national.com/ds/LM/LM89.pdf; ComponentLink2Description: LM89 Web Page; ComponentLink2URL: http://www.national.com/pf/LM/LM89.html; ComponentLink3Description: MUA08A Package Page; ComponentLink3URL: http://www.national.com/packaging/folders/mua08a.html
footprint MUA08A_N (TSOP, 8-Leads, Body 3x3mm, Pitch 0.65mm, IPC Medium Density)
footprint MUA08A_L (TSOP, 8-Leads, Body 3x3mm, Pitch 0.65mm, IPC High Density)
footprint MUA08A_M (TSOP, 8-Leads, Body 3x3mm, Pitch 0.65mm, IPC Low Density)
pins: 1 VDD (power), 2 D+ (in), 3 D- (in), 4 ~{T_CRIT_A} (oc), 5 GND (power), 6 ~{ALERT} (oc), 7 SMBDAT (io), 8 SMBCLK (in)

## LM89-1CIMMX/NOPB
designator U?
±0.75°C Accurate, Remote Diode and Local Digital Temperature Sensor with Two-Wire Interface-Wire Interface, 8-pin Mini SOIC, Pb-Free; PartNumber: LM89-1CIMMX/NOPB; Manufacturer: National Semiconductor; PackageTopMarking: ZXTT*T19C; PowerWise: N; CompType: Temp Sensor IC; Published: 1-Mar-2010; DatasheetVersion: Dec-2004; PackageVersion: revF, Apr-2008; PackageReference: MUA08A; Publisher: Altium Limited; PackageDescription: MINI SOIC, .118 x .118 x .034in, 8 Lead, .0256in Pitch; Supplier 1: Digi-Key; Supplier Part Number 1: LM89-1CIMMX-ND; RoHS: Y; PinCount: 8; Code_JEDEC: MO-187-AA; ComponentLink1Description: LM89 Datasheet; ComponentLink1URL: http://www.national.com/ds/LM/LM89.pdf; ComponentLink2Description: LM89 Web Page; ComponentLink2URL: http://www.national.com/pf/LM/LM89.html; ComponentLink3Description: MUA08A Package Page; ComponentLink3URL: http://www.national.com/packaging/folders/mua08a.html
footprint MUA08A_N (TSOP, 8-Leads, Body 3x3mm, Pitch 0.65mm, IPC Medium Density)
footprint MUA08A_L (TSOP, 8-Leads, Body 3x3mm, Pitch 0.65mm, IPC High Density)
footprint MUA08A_M (TSOP, 8-Leads, Body 3x3mm, Pitch 0.65mm, IPC Low Density)
pins: 1 VDD (power), 2 D+ (in), 3 D- (in), 4 ~{T_CRIT_A} (oc), 5 GND (power), 6 ~{ALERT} (oc), 7 SMBDAT (io), 8 SMBCLK (in)

## LM89-1CIMX
designator U?
±0.75°C Accurate, Remote Diode and Local Digital Temperature Sensor with Two-Wire Interface-Wire Interface, 8-pin Narrow SOIC; PartNumber: LM89-1CIMX; Manufacturer: National Semiconductor; PackageTopMarking: NSZXTT*LM89*-1CIM; PowerWise: N; CompType: Temp Sensor IC; Published: 1-Mar-2010; DatasheetVersion: Dec-2004; PackageVersion: revM, May-2009; PackageReference: M08A; Publisher: Altium Limited; PackageDescription: SOIC Narrow, 4.9 x 3.9 x 1.45mm, 8 Lead, 1.27mm Pitch; RoHS: N; PinCount: 8; Code_JEDEC: MS-012-AA; Code_IPC: SOIC127P600-8; ComponentLink1Description: LM89 Datasheet; ComponentLink1URL: http://www.national.com/ds/LM/LM89.pdf; ComponentLink2Description: LM89 Web Page; ComponentLink2URL: http://www.national.com/pf/LM/LM89.html; ComponentLink3Description: M08A Package Page; ComponentLink3URL: http://www.national.com/packaging/folders/m08a.html
footprint M08A_N (SOIC, 8-Leads, Body 4.9x3.9mm, Pitch 1.27mm, IPC Medium Density)
footprint M08A_L (SOIC, 8-Leads, Body 4.9x3.9mm, Pitch 1.27mm, IPC High Density)
footprint M08A_M (SOIC, 8-Leads, Body 4.9x3.9mm, Pitch 1.27mm, IPC Low Density)
pins: 1 VDD (power), 2 D+ (in), 3 D- (in), 4 ~{T_CRIT_A} (oc), 5 GND (power), 6 ~{ALERT} (oc), 7 SMBDAT (io), 8 SMBCLK (in)

## LM89CIMM
designator U?
±0.75ºC Accurate, Remote Diode and Local Digital Temperature Sensor with Two-Wire Interface, 8-pin Mini SOIC; PartNumber: LM89CIMM; Manufacturer: National Semiconductor; PackageTopMarking: ZXTT*T15C; PowerWise: N; CompType: Temp Sensor IC; Published: 4-Dec-2008; DatasheetVersion: Dec-2004; PackageVersion: revF, Apr-2008; PackageReference: MUA08A; Publisher: Altium Limited; PackageDescription: MINI SOIC, .118 x .118 x .034in, 8 Lead, .0256in Pitch; RoHS: N; PinCount: 8; Code_JEDEC: MO-187-AA; ComponentLink1Description: LM89 Datasheet; ComponentLink1URL: http://www.national.com/ds/LM/LM89.pdf; ComponentLink2Description: LM89 Web Page; ComponentLink2URL: http://www.national.com/pf/LM/LM89.html; ComponentLink3Description: MUA08A Package Page; ComponentLink3URL: http://www.national.com/packaging/folders/mua08a.html
footprint MUA08A_N (TSOP, 8-Leads, Body 3x3mm, Pitch 0.65mm, IPC Medium Density)
footprint MUA08A_L (TSOP, 8-Leads, Body 3x3mm, Pitch 0.65mm, IPC High Density)
footprint MUA08A_M (TSOP, 8-Leads, Body 3x3mm, Pitch 0.65mm, IPC Low Density)
pins: 1 VDD (power), 2 D+ (in), 3 D- (in), 4 ~{T_CRIT_A} (oc), 5 GND (power), 6 ~{ALERT} (oc), 7 SMBDAT (io), 8 SMBCLK (in)

## LM89CIMM/NOPB
designator U?
±0.75°C Accurate, Remote Diode and Local Digital Temperature Sensor with Two-Wire Interface-Wire Interface, 8-pin Mini SOIC, Pb-Free; PartNumber: LM89CIMM/NOPB; Manufacturer: National Semiconductor; PackageTopMarking: ZXTT*T15C; PowerWise: N; CompType: Temp Sensor IC; Published: 1-Mar-2010; DatasheetVersion: Dec-2004; PackageVersion: revF, Apr-2008; PackageReference: MUA08A; Publisher: Altium Limited; PackageDescription: MINI SOIC, .118 x .118 x .034in, 8 Lead, .0256in Pitch; Supplier 1: Digi-Key; Supplier Part Number 1: LM89CIMM-ND; RoHS: Y; PinCount: 8; Code_JEDEC: MO-187-AA; ComponentLink1Description: LM89 Datasheet; ComponentLink1URL: http://www.national.com/ds/LM/LM89.pdf; ComponentLink2Description: LM89 Web Page; ComponentLink2URL: http://www.national.com/pf/LM/LM89.html; ComponentLink3Description: MUA08A Package Page; ComponentLink3URL: http://www.national.com/packaging/folders/mua08a.html
footprint MUA08A_N (TSOP, 8-Leads, Body 3x3mm, Pitch 0.65mm, IPC Medium Density)
footprint MUA08A_L (TSOP, 8-Leads, Body 3x3mm, Pitch 0.65mm, IPC High Density)
footprint MUA08A_M (TSOP, 8-Leads, Body 3x3mm, Pitch 0.65mm, IPC Low Density)
pins: 1 VDD (power), 2 D+ (in), 3 D- (in), 4 ~{T_CRIT_A} (oc), 5 GND (power), 6 ~{ALERT} (oc), 7 SMBDAT (io), 8 SMBCLK (in)

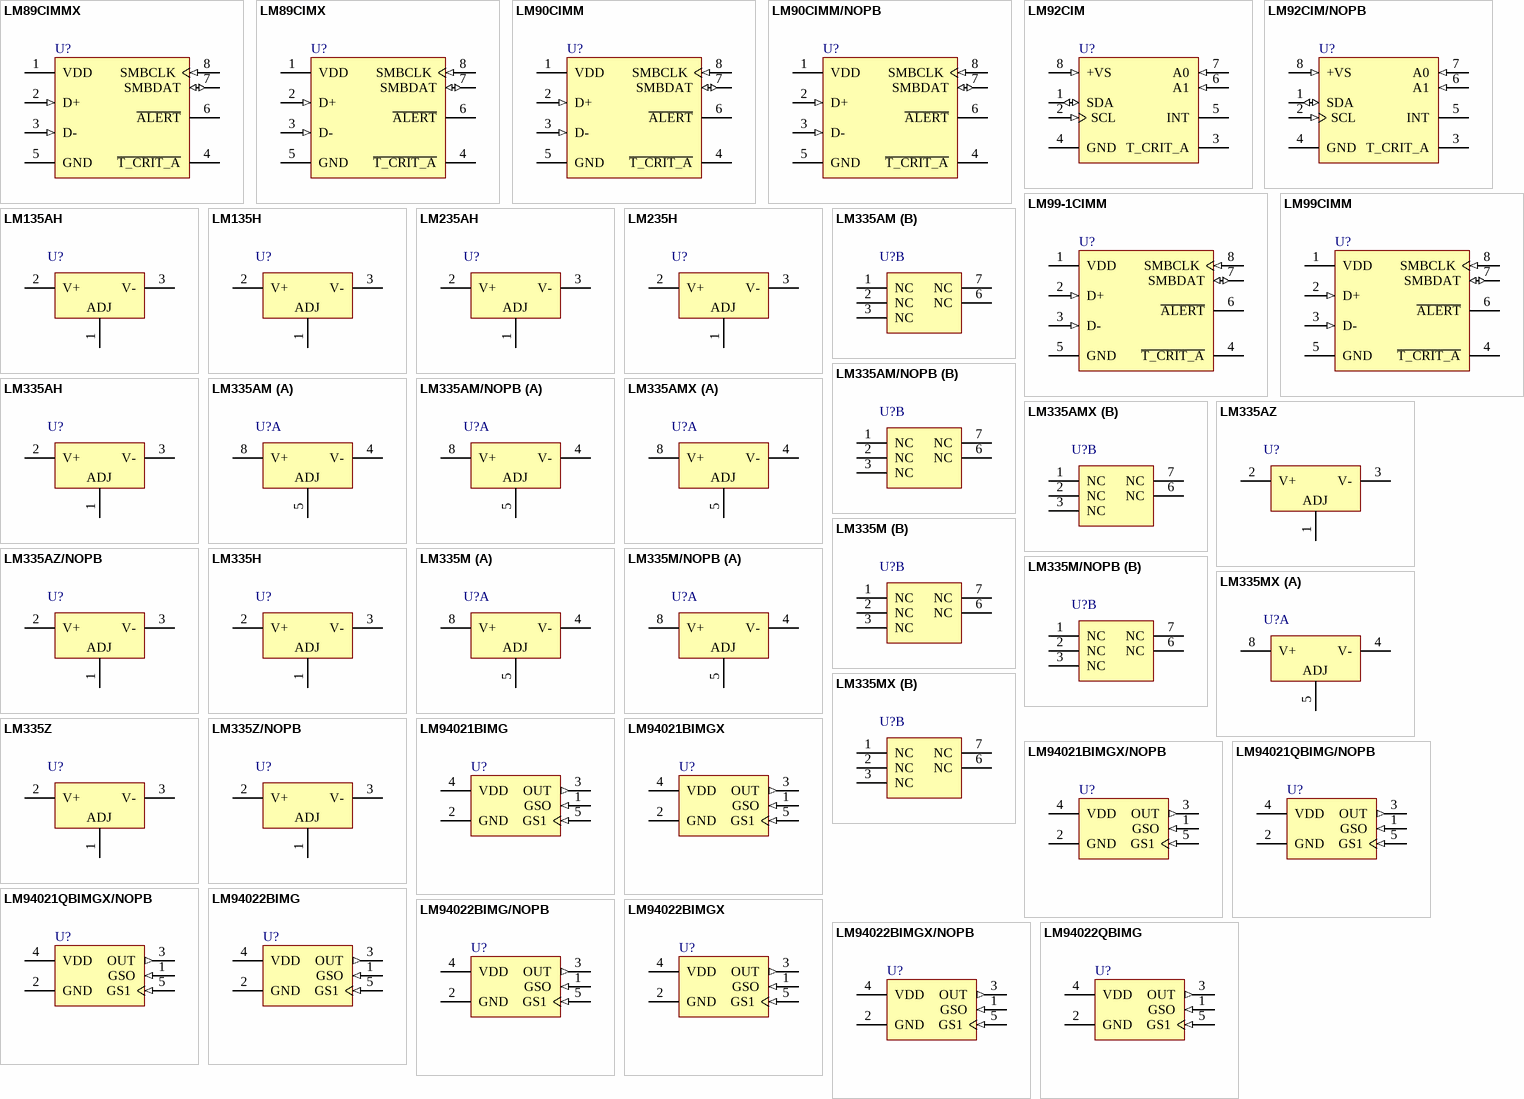
[diagram p6: symbols LM89CIMMX to LM94022QBIMG]

## LM89CIMMX
designator U?
±0.75°C Accurate, Remote Diode and Local Digital Temperature Sensor with Two-Wire Interface-Wire Interface, 8-pin Mini SOIC; PartNumber: LM89CIMMX; Manufacturer: National Semiconductor; PackageTopMarking: ZXTT*T15C; PowerWise: N; CompType: Temp Sensor IC; Published: 1-Mar-2010; DatasheetVersion: Dec-2004; PackageVersion: revF, Apr-2008; PackageReference: MUA08A; Publisher: Altium Limited; PackageDescription: MINI SOIC, .118 x .118 x .034in, 8 Lead, .0256in Pitch; RoHS: N; PinCount: 8; Code_JEDEC: MO-187-AA; ComponentLink1Description: LM89 Datasheet; ComponentLink1URL: http://www.national.com/ds/LM/LM89.pdf; ComponentLink2Description: LM89 Web Page; ComponentLink2URL: http://www.national.com/pf/LM/LM89.html; ComponentLink3Description: MUA08A Package Page; ComponentLink3URL: http://www.national.com/packaging/folders/mua08a.html
footprint MUA08A_N (TSOP, 8-Leads, Body 3x3mm, Pitch 0.65mm, IPC Medium Density)
footprint MUA08A_L (TSOP, 8-Leads, Body 3x3mm, Pitch 0.65mm, IPC High Density)
footprint MUA08A_M (TSOP, 8-Leads, Body 3x3mm, Pitch 0.65mm, IPC Low Density)
pins: 1 VDD (power), 2 D+ (in), 3 D- (in), 4 ~{T_CRIT_A} (oc), 5 GND (power), 6 ~{ALERT} (oc), 7 SMBDAT (io), 8 SMBCLK (in)

## LM89CIMX
designator U?
±0.75°C Accurate, Remote Diode and Local Digital Temperature Sensor with Two-Wire Interface-Wire Interface, 8-pin Narrow SOIC; PartNumber: LM89CIMX; Manufacturer: National Semiconductor; PackageTopMarking: NSZXTT*LM89*CIM; PowerWise: N; CompType: Temp Sensor IC; Published: 1-Mar-2010; DatasheetVersion: Dec-2004; PackageVersion: revM, May-2009; PackageReference: M08A; Publisher: Altium Limited; PackageDescription: SOIC Narrow, 4.9 x 3.9 x 1.45mm, 8 Lead, 1.27mm Pitch; RoHS: N; PinCount: 8; Code_JEDEC: MS-012-AA; Code_IPC: SOIC127P600-8; ComponentLink1Description: LM89 Datasheet; ComponentLink1URL: http://www.national.com/ds/LM/LM89.pdf; ComponentLink2Description: LM89 Web Page; ComponentLink2URL: http://www.national.com/pf/LM/LM89.html; ComponentLink3Description: M08A Package Page; ComponentLink3URL: http://www.national.com/packaging/folders/m08a.html
footprint M08A_N (SOIC, 8-Leads, Body 4.9x3.9mm, Pitch 1.27mm, IPC Medium Density)
footprint M08A_L (SOIC, 8-Leads, Body 4.9x3.9mm, Pitch 1.27mm, IPC High Density)
footprint M08A_M (SOIC, 8-Leads, Body 4.9x3.9mm, Pitch 1.27mm, IPC Low Density)
pins: 1 VDD (power), 2 D+ (in), 3 D- (in), 4 ~{T_CRIT_A} (oc), 5 GND (power), 6 ~{ALERT} (oc), 7 SMBDAT (io), 8 SMBCLK (in)

## LM90CIMM
designator U?
±3ºC Accurate, Remote Diode and Local Digital Temperature Sensor with Two-Wire Interface, 8-pin Mini SOIC; PartNumber: LM90CIMM; Manufacturer: National Semiconductor; PackageTopMarking: ZXTT*T11C; PowerWise: N; CompType: Temp Sensor IC; Published: 4-Dec-2008; DatasheetVersion: Feb-2002; PackageVersion: revF, Apr-2008; PackageReference: MUA08A; Publisher: Altium Limited; PackageDescription: MINI SOIC, .118 x .118 x .034in, 8 Lead, .0256in Pitch; Supplier 1: Farnell; Supplier Part Number 1: 1312798; RoHS: N; PinCount: 8; Code_JEDEC: MO-187-AA; ComponentLink1Description: LM90 Datasheet; ComponentLink1URL: http://www.national.com/ds/LM/LM90.pdf; ComponentLink2Description: LM90 Web Page; ComponentLink2URL: http://www.national.com/pf/LM/LM90.html; ComponentLink3Description: MUA08A Package Page; ComponentLink3URL: http://www.national.com/packaging/folders/mua08a.html
footprint MUA08A_N (TSOP, 8-Leads, Body 3x3mm, Pitch 0.65mm, IPC Medium Density)
footprint MUA08A_L (TSOP, 8-Leads, Body 3x3mm, Pitch 0.65mm, IPC High Density)
footprint MUA08A_M (TSOP, 8-Leads, Body 3x3mm, Pitch 0.65mm, IPC Low Density)
pins: 1 VDD (power), 2 D+ (in), 3 D- (in), 4 ~{T_CRIT_A} (oc), 5 GND (power), 6 ~{ALERT} (oc), 7 SMBDAT (io), 8 SMBCLK (in)

## LM90CIMM/NOPB
designator U?
±3°C Accurate, Remote Diode and Local Digital Temperature Sensor with Two-Wire Interface, 8-pin Mini SOIC, Pb-Free; PartNumber: LM90CIMM/NOPB; Manufacturer: National Semiconductor; PackageTopMarking: ZXTT*T11C; PowerWise: N; CompType: Temp Sensor IC; Published: 1-Mar-2010; DatasheetVersion: Feb-2002; PackageVersion: revF, Apr-2008; PackageReference: MUA08A; Publisher: Altium Limited; PackageDescription: MINI SOIC, .118 x .118 x .034in, 8 Lead, .0256in Pitch; Supplier 1: Digi-Key; Supplier Part Number 1: LM90CIMMTR-ND; Supplier 2: Digi-Key; Supplier Part Number 2: LM90CIMMCT-ND; Supplier 3: Digi-Key; Supplier Part Number 3: LM90CIMMDKR-ND; Supplier 4: Farnell; Supplier Part Number 4: 1499367; RoHS: Y; PinCount: 8; Code_JEDEC: MO-187-AA; ComponentLink1Description: LM90 Datasheet; ComponentLink1URL: http://www.national.com/ds/LM/LM90.pdf; ComponentLink2Description: LM90 Web Page; ComponentLink2URL: http://www.national.com/pf/LM/LM90.html; ComponentLink3Description: MUA08A Package Page; ComponentLink3URL: http://www.national.com/packaging/folders/mua08a.html
footprint MUA08A_N (TSOP, 8-Leads, Body 3x3mm, Pitch 0.65mm, IPC Medium Density)
footprint MUA08A_L (TSOP, 8-Leads, Body 3x3mm, Pitch 0.65mm, IPC High Density)
footprint MUA08A_M (TSOP, 8-Leads, Body 3x3mm, Pitch 0.65mm, IPC Low Density)
pins: 1 VDD (power), 2 D+ (in), 3 D- (in), 4 ~{T_CRIT_A} (oc), 5 GND (power), 6 ~{ALERT} (oc), 7 SMBDAT (io), 8 SMBCLK (in)